# Altium footprint library RF_Filters.PcbLib: 2 footprints
Each footprint in its own frame and in the unit in brackets; x right, y up, seen from the top. Pads: shape width x height; smd on the part's side, far side on the other; paste and mask are expansions set on the pad; w line width, h text height; cw(c..) or ccw(c..) is an arc to the next point about the centre after c.
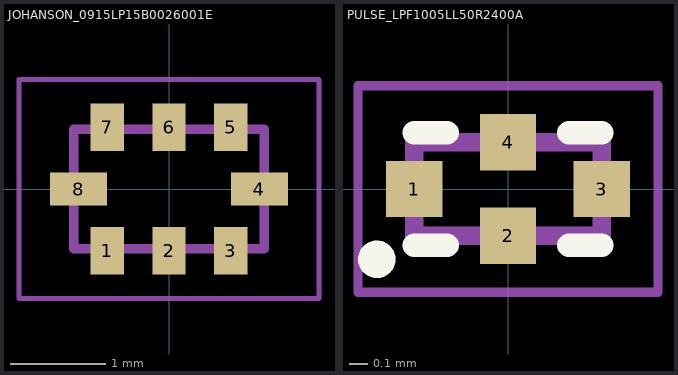
[diagram p0: the footprints below, top view; thin cyan lines are the x and y axes]

## JOHANSON_0915LP15B0026001E [mm]
pads (8):
  rect 0.35x0.5 smd: 1(-0.65,-0.65) 2(0,-0.65) 3(0.65,-0.65) 5(0.65,0.65) 6(0,0.65) 7(-0.65,0.65)
  rect 0.6x0.35 smd: 4(0.95,0) 8(-0.95,0)
Mechanical 1:
  lines w0.1: -1,-0.625 1,-0.625 1,0.625 -1,0.625 -1,-0.625
Mechanical 15:
  lines w0.05: -1.575,-1.15 1.575,-1.15 1.575,1.15 -1.575,1.15 -1.575,-1.15
3D body "0915LP15B026E--3DModel-STEP-56544.STEP": height 0.95, standoff 0, extent -1,-0.625 1,0.625

## PULSE_LPF1005LL50R2400A [mm] "0402 (1005 Metric), 4 PC Pad"
pads (4):
  rect 0.3x0.3 smd mask+0.05: 1(-0.5,0) 2(0,-0.25) 3(0.5,0) 4(0,0.25)
Top Overlay:
  circle w0.1: c-0.7,-0.375 r0.05
  lines w0.127: -0.5,-0.3 -0.325,-0.3 ; -0.5,0.3 -0.325,0.3 ; 0.325,-0.3 0.5,-0.3 ; 0.325,0.3 0.5,0.3
Mechanical 1:
  lines w0.1: -0.5,-0.25 -0.5,0.25 0.5,0.25 0.5,-0.25 -0.5,-0.25
Mechanical 15:
  lines w0.05: -0.8,-0.55 -0.8,0.55 0.8,0.55 0.8,-0.55 -0.8,-0.55
3D body "LPF1005LL50R2400A.stp": height 0.35, standoff 0, extent -0.5,-0.25 0.5,0.25